# Altium integrated library TI Amplifiers and Linear PGA-VGA.IntLib: 149 symbols (part 2 of 8)
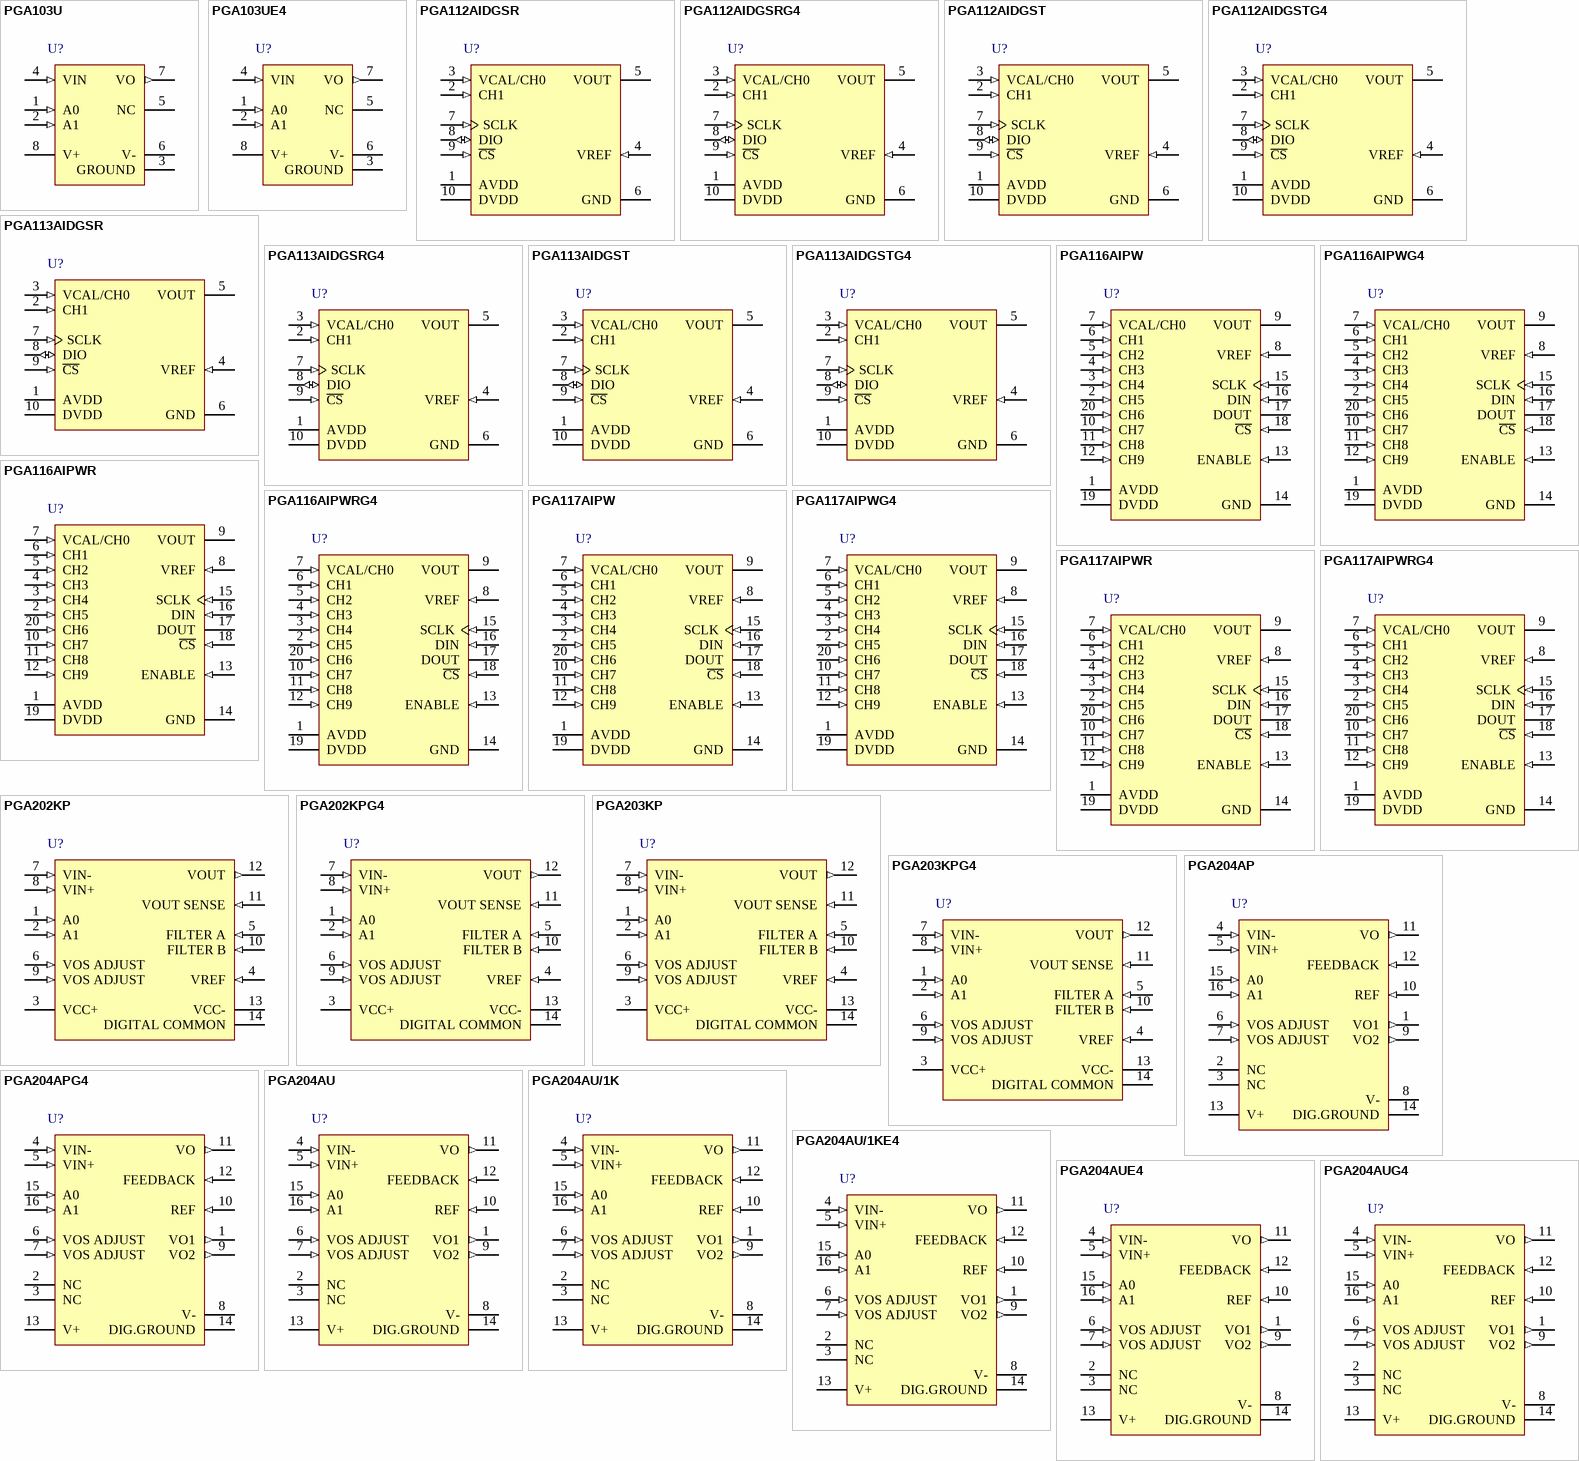
[diagram p8: symbols PGA103U to PGA204AUG4]

## PGA117AIPWR
designator U?
Zero-Drift, Programmable Gain Amplifier with MUX, -40 to 125 degC, 20-pin SOP (PW20), Green (RoHS & no Sb/Br); Manufacturer: Texas Instruments; PartNumber: PGA117AIPWR; Gain Error (+/-)(Max)(%): 0.1; Gain(V/V): 1, 2, 5, 10, 20, 50, 100, 200; Input Bias Current (+/-)(Max)(nA): 5; Input Offset (+/-)(Max)(uV): 100; Input Offset Drift (+/-)(Max)(uV/Degrees Celsius): 1.2; Non-Linearity (+/-)(Max)(%): 0.0015; Number of Channels: 10; Quiescent Current (+/-)(Typ)(mA): 1.1; Settling Time to 0.01%(Typ)(us): 2.55; Slew Rate(Typ)(V/us): 3; Vs(Max)(V): 5.5; Vs(Min)(V): 2.2; DatasheetVersion: SBOS424B; PackageVersion: 4040064-5/G, 02/2011; PackageReference: PW20; PackageDescription: 20-Pin Plastic Small Outline, Body 6.5 x 4.4 mm, Pitch 0.65 mm; Supplier 1: Digi-Key; Supplier Part Number 1: 296-23773-2-ND; Supplier 2: Digi-Key; Supplier Part Number 2: 296-23773-1-ND; Supplier 3: Digi-Key; Supplier Part Number 3: 296-23773-6-ND; Supplier 4: Newark; Supplier Part Number 4: 09P8516; Supplier 5: Mouser; Supplier Part Number 5: 595-PGA117AIPWR; Eco-Plan: Green (RoHS & no Sb/Br); SubFamily: Programmable Gain Amplifier; Mounting Technology: Surface Mount; Code_JEDEC: MO-153; ComponentLink1Description: Manufacturer URL; ComponentLink1URL: http://www.ti.com/; ComponentLink2Description: Datasheet; ComponentLink2URL: http://www.ti.com/general/docs/lit/getliterature.tsp?genericPartNumber=PGA117&fileType=pdf; ComponentLink3Description: Package Specification; ComponentLink3URL: http://www.ti.com.cn/cn/lit/ml/mpds362/mpds362.pdf
footprint TI-PW20_N (SOP, 20-Leads, Body 6.6x4.5mm, Pitch 0.65mm, IPC Medium Density)
footprint TI-PW20_L (SOP, 20-Leads, Body 6.6x4.5mm, Pitch 0.65mm, IPC High Density)
footprint TI-PW20_M (SOP, 20-Leads, Body 6.6x4.5mm, Pitch 0.65mm, IPC Low Density)
pins: 1 AVDD (power) "Analog supply voltage (+2.2V to +5.5V)", 2 CH5 (in) "Input MUX channel 5", 3 CH4 (in) "Input MUX channel 4", 4 CH3 (in) "Input MUX channel 3", 5 CH2 (in) "Input MUX channel 2", 6 CH1 (in) "Input MUX channel 1", 7 VCAL/CH0 (in) "Input MUX channel 0 and VCAL input. For system calibration purposes, connect this pin to a low-impedance external reference voltage to use internal calibration channels. The four internal calibration channels are connected (See Datasheet)", 8 VREF (in) "Reference input pin. Connect external reference for VOUT offset shift or to midsupply for midsupply referenced systems. VREF must be connected to a low-impedance reference capable of sourcing and sinking at least 2mA or to (See Datasheet)", 9 VOUT (hiz) "Analog voltage output. When AVDD < DVDD, VOUT is clamped to AVDD + 300mV.", 10 CH7 (in) "Input MUX channel 7", 11 CH8 (in) "Input MUX channel 8", 12 CH9 (in) "Input MUX channel 9", 13 ENABLE (in) "Hardware enable pin. Logic low puts the part into Shutdown mode (IQ < 1uA).", 14 GND (power) "Ground pin", 15 SCLK (in) "Clock input for SPI serial interface", 16 DIN (in) "Data input for SPI serial interface. DIN contains a weak, 10uA internal pull-down current source to allow for ease of daisy-chain configurations.", 17 DOUT (hiz) "Data output for SPI serial interface. DOUT goes to high-Z state when C\S\ goes high for standard SPI interface.", 18 ~{CS} (in) "Chip select line for SPI serial interface", 19 DVDD (power) "Digital and op amp output stage supply voltage (+2.2V to +5.5V). Useful in multi-supply systems to prevent overvoltage/lockup condition on an ADC input (for example, a microcontroller with an ADC running on +3V and the PGA (See Datasheet)", 20 CH6 (in) "Input MUX channel 6"

## PGA117AIPWRG4
designator U?
Zero-Drift, Programmable Gain Amplifier with MUX, -40 to 125 degC, 20-pin SOP (PW20), Green (RoHS & no Sb/Br); Manufacturer: Texas Instruments; PartNumber: PGA117AIPWRG4; Gain Error (+/-)(Max)(%): 0.1; Gain(V/V): 1, 2, 5, 10, 20, 50, 100, 200; Input Bias Current (+/-)(Max)(nA): 5; Input Offset (+/-)(Max)(uV): 100; Input Offset Drift (+/-)(Max)(uV/Degrees Celsius): 1.2; Non-Linearity (+/-)(Max)(%): 0.0015; Number of Channels: 10; Quiescent Current (+/-)(Typ)(mA): 1.1; Settling Time to 0.01%(Typ)(us): 2.55; Slew Rate(Typ)(V/us): 3; Vs(Max)(V): 5.5; Vs(Min)(V): 2.2; DatasheetVersion: SBOS424B; PackageVersion: 4040064-5/G, 02/2011; PackageReference: PW20; PackageDescription: 20-Pin Plastic Small Outline, Body 6.5 x 4.4 mm, Pitch 0.65 mm; Supplier 1: Digi-Key; Supplier Part Number 1: PGA117AIPWRG4-ND; Supplier 2: Mouser; Supplier Part Number 2: 595-PGA117AIPWRG4; Eco-Plan: Green (RoHS & no Sb/Br); SubFamily: Programmable Gain Amplifier; Mounting Technology: Surface Mount; Code_JEDEC: MO-153; ComponentLink1Description: Manufacturer URL; ComponentLink1URL: http://www.ti.com/; ComponentLink2Description: Datasheet; ComponentLink2URL: http://www.ti.com/general/docs/lit/getliterature.tsp?genericPartNumber=PGA117&fileType=pdf; ComponentLink3Description: Package Specification; ComponentLink3URL: http://www.ti.com.cn/cn/lit/ml/mpds362/mpds362.pdf
footprint TI-PW20_N (SOP, 20-Leads, Body 6.6x4.5mm, Pitch 0.65mm, IPC Medium Density)
footprint TI-PW20_L (SOP, 20-Leads, Body 6.6x4.5mm, Pitch 0.65mm, IPC High Density)
footprint TI-PW20_M (SOP, 20-Leads, Body 6.6x4.5mm, Pitch 0.65mm, IPC Low Density)
pins: 1 AVDD (power) "Analog supply voltage (+2.2V to +5.5V)", 2 CH5 (in) "Input MUX channel 5", 3 CH4 (in) "Input MUX channel 4", 4 CH3 (in) "Input MUX channel 3", 5 CH2 (in) "Input MUX channel 2", 6 CH1 (in) "Input MUX channel 1", 7 VCAL/CH0 (in) "Input MUX channel 0 and VCAL input. For system calibration purposes, connect this pin to a low-impedance external reference voltage to use internal calibration channels. The four internal calibration channels are connected (See Datasheet)", 8 VREF (in) "Reference input pin. Connect external reference for VOUT offset shift or to midsupply for midsupply referenced systems. VREF must be connected to a low-impedance reference capable of sourcing and sinking at least 2mA or to (See Datasheet)", 9 VOUT (hiz) "Analog voltage output. When AVDD < DVDD, VOUT is clamped to AVDD + 300mV.", 10 CH7 (in) "Input MUX channel 7", 11 CH8 (in) "Input MUX channel 8", 12 CH9 (in) "Input MUX channel 9", 13 ENABLE (in) "Hardware enable pin. Logic low puts the part into Shutdown mode (IQ < 1uA).", 14 GND (power) "Ground pin", 15 SCLK (in) "Clock input for SPI serial interface", 16 DIN (in) "Data input for SPI serial interface. DIN contains a weak, 10uA internal pull-down current source to allow for ease of daisy-chain configurations.", 17 DOUT (hiz) "Data output for SPI serial interface. DOUT goes to high-Z state when C\S\ goes high for standard SPI interface.", 18 ~{CS} (in) "Chip select line for SPI serial interface", 19 DVDD (power) "Digital and op amp output stage supply voltage (+2.2V to +5.5V). Useful in multi-supply systems to prevent overvoltage/lockup condition on an ADC input (for example, a microcontroller with an ADC running on +3V and the PGA (See Datasheet)", 20 CH6 (in) "Input MUX channel 6"

## PGA202KP
designator U?
Digitally Controlled Programmable-Gain Instrumentation Amplifier, -25 to 85 degC, 14-pin DIP (N14), Green (RoHS & no Sb/Br); Manufacturer: Texas Instruments; PartNumber: PGA202KP; Common Mode Input High(Min)(V): 10; Common Mode Input Low(Min)(V): -10; Gain Error (+/-)(Max)(%): 0.25; Gain(V/V): 1, 10, 100, 1000; Input Bias Current (+/-)(Max)(nA): 0.05; Non-Linearity (+/-)(Max)(%): 0.015; Number of Channels: 1; Quiescent Current (+/-)(Typ)(mA): 6.5; Settling Time to 0.01%(Typ)(us): 2; Slew Rate(Typ)(V/us): 20; SubFamily: Programmable Gain Amplifier; Vs(Max)(V): 36; Vs(Min)(V): 12; DatasheetVersion: SBOS002; PackageVersion: 4040049/E, 12/2002; PackageReference: N14; PackageDescription: 14-Pin Plastic In-Line, Body 19.305 x 6.35 mm, Pitch 2.54 mm; Supplier 1: Digi-Key; Supplier Part Number 1: PGA202KP-ND; Supplier 2: Farnell; Supplier Part Number 2: 1648647; Supplier 3: Newark; Supplier Part Number 3: 80K6038; Supplier 4: Mouser; Supplier Part Number 4: 595-PGA202KP; Eco-Plan: Green (RoHS & no Sb/Br); Mounting Technology: Through Hole; Code_JEDEC: MS-001; ComponentLink1Description: Manufacturer URL; ComponentLink1URL: http://www.ti.com/; ComponentLink2Description: Datasheet; ComponentLink2URL: http://www.ti.com/general/docs/lit/getliterature.tsp?genericPartNumber=PGA202&fileType=pdf; ComponentLink3Description: Package Specification; ComponentLink3URL: http://www.ti.com/lit/ml/mpdi002c/mpdi002c.pdf
footprint TI-N14 (DIP, 14-Leads, Body 19.7x6.6mm, Pitch 2.54mm)
pins: 1 A0 (in), 2 A1 (in), 3 VCC+ (power), 4 VREF (in), 5 FILTER A (in), 6 VOS ADJUST (in), 7 VIN- (in), 8 VIN+ (in), 9 VOS ADJUST (in), 10 FILTER B (in), 11 VOUT SENSE (in), 12 VOUT (out), 13 VCC- (power), 14 DIGITAL COMMON (power)

## PGA202KPG4
designator U?
Digitally Controlled Programmable-Gain Instrumentation Amplifier, -25 to 85 degC, 14-pin DIP (N14), Green (RoHS & no Sb/Br); Manufacturer: Texas Instruments; PartNumber: PGA202KPG4; Common Mode Input High(Min)(V): 10; Common Mode Input Low(Min)(V): -10; Gain Error (+/-)(Max)(%): 0.25; Gain(V/V): 1, 10, 100, 1000; Input Bias Current (+/-)(Max)(nA): 0.05; Non-Linearity (+/-)(Max)(%): 0.015; Number of Channels: 1; Quiescent Current (+/-)(Typ)(mA): 6.5; Settling Time to 0.01%(Typ)(us): 2; Slew Rate(Typ)(V/us): 20; SubFamily: Programmable Gain Amplifier; Vs(Max)(V): 36; Vs(Min)(V): 12; DatasheetVersion: SBOS002; PackageVersion: 4040049/E, 12/2002; PackageReference: N14; PackageDescription: 14-Pin Plastic In-Line, Body 19.305 x 6.35 mm, Pitch 2.54 mm; Supplier 1: Digi-Key; Supplier Part Number 1: PGA202KPG4-ND; Supplier 2: Mouser; Supplier Part Number 2: 595-PGA202KPG4; Eco-Plan: Green (RoHS & no Sb/Br); Mounting Technology: Through Hole; Code_JEDEC: MS-001; ComponentLink1Description: Manufacturer URL; ComponentLink1URL: http://www.ti.com/; ComponentLink2Description: Datasheet; ComponentLink2URL: http://www.ti.com/general/docs/lit/getliterature.tsp?genericPartNumber=PGA202&fileType=pdf; ComponentLink3Description: Package Specification; ComponentLink3URL: http://www.ti.com/lit/ml/mpdi002c/mpdi002c.pdf
footprint TI-N14 (DIP, 14-Leads, Body 19.7x6.6mm, Pitch 2.54mm)
pins: 1 A0 (in), 2 A1 (in), 3 VCC+ (power), 4 VREF (in), 5 FILTER A (in), 6 VOS ADJUST (in), 7 VIN- (in), 8 VIN+ (in), 9 VOS ADJUST (in), 10 FILTER B (in), 11 VOUT SENSE (in), 12 VOUT (out), 13 VCC- (power), 14 DIGITAL COMMON (power)

## PGA203KP
designator U?
Digitally Controlled Programmable-Gain Instrumentation Amplifier, -25 to 85 degC, 14-pin DIP (N14), Green (RoHS & no Sb/Br); Manufacturer: Texas Instruments; PartNumber: PGA203KP; Common Mode Input High(Min)(V): 10; Common Mode Input Low(Min)(V): -10; Gain Error (+/-)(Max)(%): 0.25; Gain(V/V): 1, 2, 4, 8; Input Bias Current (+/-)(Max)(nA): 0.05; Non-Linearity (+/-)(Max)(%): 0.015; Number of Channels: 1; Quiescent Current (+/-)(Typ)(mA): 6.5; Settling Time to 0.01%(Typ)(us): 2; Slew Rate(Typ)(V/us): 20; SubFamily: Programmable Gain Amplifier; Vs(Max)(V): 36; Vs(Min)(V): 12; DatasheetVersion: SBOS002; PackageVersion: 4040049/E, 12/2002; PackageReference: N14; PackageDescription: 14-Pin Plastic In-Line, Body 19.305 x 6.35 mm, Pitch 2.54 mm; Supplier 1: Digi-Key; Supplier Part Number 1: PGA203KP-ND; Supplier 2: Farnell; Supplier Part Number 2: 1544015; Supplier 3: Newark; Supplier Part Number 3: 80K7312; Supplier 4: Mouser; Supplier Part Number 4: 595-PGA203KP; Eco-Plan: Green (RoHS & no Sb/Br); Mounting Technology: Through Hole; Code_JEDEC: MS-001; ComponentLink1Description: Manufacturer URL; ComponentLink1URL: http://www.ti.com/; ComponentLink2Description: Datasheet; ComponentLink2URL: http://www.ti.com/general/docs/lit/getliterature.tsp?genericPartNumber=PGA203&fileType=pdf; ComponentLink3Description: Package Specification; ComponentLink3URL: http://www.ti.com/lit/ml/mpdi002c/mpdi002c.pdf
footprint TI-N14 (DIP, 14-Leads, Body 19.7x6.6mm, Pitch 2.54mm)
pins: 1 A0 (in), 2 A1 (in), 3 VCC+ (power), 4 VREF (in), 5 FILTER A (in), 6 VOS ADJUST (in), 7 VIN- (in), 8 VIN+ (in), 9 VOS ADJUST (in), 10 FILTER B (in), 11 VOUT SENSE (in), 12 VOUT (out), 13 VCC- (power), 14 DIGITAL COMMON (power)

## PGA203KPG4
designator U?
Digitally Controlled Programmable-Gain Instrumentation Amplifier, -25 to 85 degC, 14-pin DIP (N14), Green (RoHS & no Sb/Br); Manufacturer: Texas Instruments; PartNumber: PGA203KPG4; Common Mode Input High(Min)(V): 10; Common Mode Input Low(Min)(V): -10; Gain Error (+/-)(Max)(%): 0.25; Gain(V/V): 1, 2, 4, 8; Input Bias Current (+/-)(Max)(nA): 0.05; Non-Linearity (+/-)(Max)(%): 0.015; Number of Channels: 1; Quiescent Current (+/-)(Typ)(mA): 6.5; Settling Time to 0.01%(Typ)(us): 2; Slew Rate(Typ)(V/us): 20; SubFamily: Programmable Gain Amplifier; Vs(Max)(V): 36; Vs(Min)(V): 12; DatasheetVersion: SBOS002; PackageVersion: 4040049/E, 12/2002; PackageReference: N14; PackageDescription: 14-Pin Plastic In-Line, Body 19.305 x 6.35 mm, Pitch 2.54 mm; Supplier 1: Digi-Key; Supplier Part Number 1: PGA203KPG4-ND; Supplier 2: Mouser; Supplier Part Number 2: 595-PGA203KPG4; Eco-Plan: Green (RoHS & no Sb/Br); Mounting Technology: Through Hole; Code_JEDEC: MS-001; ComponentLink1Description: Manufacturer URL; ComponentLink1URL: http://www.ti.com/; ComponentLink2Description: Datasheet; ComponentLink2URL: http://www.ti.com/general/docs/lit/getliterature.tsp?genericPartNumber=PGA203&fileType=pdf; ComponentLink3Description: Package Specification; ComponentLink3URL: http://www.ti.com/lit/ml/mpdi002c/mpdi002c.pdf
footprint TI-N14 (DIP, 14-Leads, Body 19.7x6.6mm, Pitch 2.54mm)
pins: 1 A0 (in), 2 A1 (in), 3 VCC+ (power), 4 VREF (in), 5 FILTER A (in), 6 VOS ADJUST (in), 7 VIN- (in), 8 VIN+ (in), 9 VOS ADJUST (in), 10 FILTER B (in), 11 VOUT SENSE (in), 12 VOUT (out), 13 VCC- (power), 14 DIGITAL COMMON (power)

## PGA204AP
designator U?
Programmable Gain Instrumentation Amplifier, -40 to 85 degC, 16-pin DIP (N16), Green (RoHS & no Sb/Br); Manufacturer: Texas Instruments; PartNumber: PGA204AP; Common Mode Input High(Min)(V): 10.5; Common Mode Input Low(Min)(V): -10.5; Gain Error (+/-)(Max)(%): 0.05; Gain(V/V): 1, 10, 100, 1000; Input Bias Current (+/-)(Max)(nA): 5; Input Offset (+/-)(Max)(uV): 125; Input Offset Drift (+/-)(Max)(uV/Degrees Celsius): 1; Noise at 1kHz(Typ)(nV/rt(Hz)): 13; Non-Linearity (+/-)(Max)(%): 0.002; Quiescent Current (+/-)(Typ)(mA): 5.2; Settling Time to 0.01%(Typ)(us): 140; Slew Rate(Typ)(V/us): 0.7; SubFamily: Programmable Gain Amplifier; Vs(Max)(V): 36; Vs(Min)(V): 9; DatasheetVersion: SBOS022; PackageVersion: 4040049/E, 12/2002; PackageReference: N16; PackageDescription: 16-Pin Plastic In-Line, Body 19.305 x 6.35 mm, Pitch 2.54 mm; Supplier 1: Digi-Key; Supplier Part Number 1: PGA204AP-ND; Supplier 2: Farnell; Supplier Part Number 2: 1470399; Supplier 3: Newark; Supplier Part Number 3: 75C5418; Supplier 4: Mouser; Supplier Part Number 4: 595-PGA204AP; Eco-Plan: Green (RoHS & no Sb/Br); Number of Channels: 1; Mounting Technology: Through Hole; Code_JEDEC: MS-001; ComponentLink1Description: Manufacturer URL; ComponentLink1URL: http://www.ti.com/; ComponentLink2Description: Datasheet; ComponentLink2URL: http://www.ti.com/general/docs/lit/getliterature.tsp?genericPartNumber=PGA204&fileType=pdf; ComponentLink3Description: Package Specification; ComponentLink3URL: http://www.ti.com/litv/pdf/mpdi002c
footprint TI-N16 (DIP, 16-Leads, Body 19.7x6.6mm, Pitch 2.54mm)
pins: 1 VO1 (out), 2 NC, 3 NC, 4 VIN- (in), 5 VIN+ (in), 6 VOS ADJUST (in), 7 VOS ADJUST (in), 8 V- (power), 9 VO2 (out), 10 REF (in), 11 VO (out), 12 FEEDBACK (in), 13 V+ (power), 14 DIG.GROUND (power), 15 A0 (in), 16 A1 (in)

## PGA204APG4
designator U?
Programmable Gain Instrumentation Amplifier, -40 to 85 degC, 16-pin DIP (N16), Green (RoHS & no Sb/Br); Manufacturer: Texas Instruments; PartNumber: PGA204APG4; Common Mode Input High(Min)(V): 10.5; Common Mode Input Low(Min)(V): -10.5; Gain Error (+/-)(Max)(%): 0.05; Gain(V/V): 1, 10, 100, 1000; Input Bias Current (+/-)(Max)(nA): 5; Input Offset (+/-)(Max)(uV): 125; Input Offset Drift (+/-)(Max)(uV/Degrees Celsius): 1; Noise at 1kHz(Typ)(nV/rt(Hz)): 13; Non-Linearity (+/-)(Max)(%): 0.002; Quiescent Current (+/-)(Typ)(mA): 5.2; Settling Time to 0.01%(Typ)(us): 140; Slew Rate(Typ)(V/us): 0.7; SubFamily: Programmable Gain Amplifier; Vs(Max)(V): 36; Vs(Min)(V): 9; DatasheetVersion: SBOS022; PackageVersion: 4040049/E, 12/2002; PackageReference: N16; PackageDescription: 16-Pin Plastic In-Line, Body 19.305 x 6.35 mm, Pitch 2.54 mm; Supplier 1: Digi-Key; Supplier Part Number 1: PGA204APG4-ND; Supplier 2: Newark; Supplier Part Number 2: 28M6722; Supplier 3: Mouser; Supplier Part Number 3: 595-PGA204APG4; Eco-Plan: Green (RoHS & no Sb/Br); Number of Channels: 1; Mounting Technology: Through Hole; Code_JEDEC: MS-001; ComponentLink1Description: Manufacturer URL; ComponentLink1URL: http://www.ti.com/; ComponentLink2Description: Datasheet; ComponentLink2URL: http://www.ti.com/general/docs/lit/getliterature.tsp?genericPartNumber=PGA204&fileType=pdf; ComponentLink3Description: Package Specification; ComponentLink3URL: http://www.ti.com/litv/pdf/mpdi002c
footprint TI-N16 (DIP, 16-Leads, Body 19.7x6.6mm, Pitch 2.54mm)
pins: 1 VO1 (out), 2 NC, 3 NC, 4 VIN- (in), 5 VIN+ (in), 6 VOS ADJUST (in), 7 VOS ADJUST (in), 8 V- (power), 9 VO2 (out), 10 REF (in), 11 VO (out), 12 FEEDBACK (in), 13 V+ (power), 14 DIG.GROUND (power), 15 A0 (in), 16 A1 (in)

## PGA204AU
designator U?
Programmable Gain Instrumentation Amplifier, -40 to 85 degC, 16-pin SOIC (DW16), Green (RoHS & no Sb/Br); Manufacturer: Texas Instruments; PartNumber: PGA204AU; Common Mode Input High(Min)(V): 10.5; Common Mode Input Low(Min)(V): -10.5; Gain Error (+/-)(Max)(%): 0.05; Gain(V/V): 1, 10, 100, 1000; Input Bias Current (+/-)(Max)(nA): 5; Input Offset (+/-)(Max)(uV): 125; Input Offset Drift (+/-)(Max)(uV/Degrees Celsius): 1; Noise at 1kHz(Typ)(nV/rt(Hz)): 13; Non-Linearity (+/-)(Max)(%): 0.002; Quiescent Current (+/-)(Typ)(mA): 5.2; Settling Time to 0.01%(Typ)(us): 140; Slew Rate(Typ)(V/us): 0.7; SubFamily: Programmable Gain Amplifier; Vs(Max)(V): 36; Vs(Min)(V): 9; DatasheetVersion: SBOS022; PackageVersion: 4040000-2/G, 01/2011; PackageReference: DW16; PackageDescription: 16-Pin Plastic Small Outline, Body 10.30 x 7.50 mm, Pitch 1.27 mm; Supplier 1: Digi-Key; Supplier Part Number 1: PGA204AU-ND; Supplier 2: Newark; Supplier Part Number 2: 35C1957; Supplier 3: Mouser; Supplier Part Number 3: 595-PGA204AU; Eco-Plan: Green (RoHS & no Sb/Br); Number of Channels: 1; Mounting Technology: Surface Mount; Code_JEDEC: MS-013; ComponentLink1Description: Manufacturer URL; ComponentLink1URL: http://www.ti.com/; ComponentLink2Description: Datasheet; ComponentLink2URL: http://www.ti.com/general/docs/lit/getliterature.tsp?genericPartNumber=PGA204&fileType=pdf; ComponentLink3Description: Package Specification; ComponentLink3URL: http://www.ti.com/litv/pdf/msoi003g
footprint TI-DW16_N (SOIC, 16-Leads, Body 10.5x7.6mm, Pitch 1.27mm, IPC Medium Density)
footprint TI-DW16_L (SOIC, 16-Leads, Body 10.5x7.6mm, Pitch 1.27mm, IPC High Density)
footprint TI-DW16_M (SOIC, 16-Leads, Body 10.5x7.6mm, Pitch 1.27mm, IPC Low Density)
pins: 1 VO1 (out), 2 NC, 3 NC, 4 VIN- (in), 5 VIN+ (in), 6 VOS ADJUST (in), 7 VOS ADJUST (in), 8 V- (power), 9 VO2 (out), 10 REF (in), 11 VO (out), 12 FEEDBACK (in), 13 V+ (power), 14 DIG.GROUND (power), 15 A0 (in), 16 A1 (in)

## PGA204AU/1K
designator U?
Programmable Gain Instrumentation Amplifier, -40 to 85 degC, 16-pin SOIC (DW16), Green (RoHS & no Sb/Br); Manufacturer: Texas Instruments; PartNumber: PGA204AU/1K; Common Mode Input High(Min)(V): 10.5; Common Mode Input Low(Min)(V): -10.5; Gain Error (+/-)(Max)(%): 0.05; Gain(V/V): 1, 10, 100, 1000; Input Bias Current (+/-)(Max)(nA): 5; Input Offset (+/-)(Max)(uV): 125; Input Offset Drift (+/-)(Max)(uV/Degrees Celsius): 1; Noise at 1kHz(Typ)(nV/rt(Hz)): 13; Non-Linearity (+/-)(Max)(%): 0.002; Quiescent Current (+/-)(Typ)(mA): 5.2; Settling Time to 0.01%(Typ)(us): 140; Slew Rate(Typ)(V/us): 0.7; SubFamily: Programmable Gain Amplifier; Vs(Max)(V): 36; Vs(Min)(V): 9; DatasheetVersion: SBOS022; PackageVersion: 4040000-2/G, 01/2011; PackageReference: DW16; PackageDescription: 16-Pin Plastic Small Outline, Body 10.30 x 7.50 mm, Pitch 1.27 mm; Supplier 1: Digi-Key; Supplier Part Number 1: PGA204AU/1K-ND; Supplier 2: Newark; Supplier Part Number 2: 75C5419; Supplier 3: Mouser; Supplier Part Number 3: 595-PGA204AU/1K; Eco-Plan: Green (RoHS & no Sb/Br); Number of Channels: 1; Mounting Technology: Surface Mount; Code_JEDEC: MS-013; ComponentLink1Description: Manufacturer URL; ComponentLink1URL: http://www.ti.com/; ComponentLink2Description: Datasheet; ComponentLink2URL: http://www.ti.com/general/docs/lit/getliterature.tsp?genericPartNumber=PGA204&fileType=pdf; ComponentLink3Description: Package Specification; ComponentLink3URL: http://www.ti.com/litv/pdf/msoi003g
footprint TI-DW16_N (SOIC, 16-Leads, Body 10.5x7.6mm, Pitch 1.27mm, IPC Medium Density)
footprint TI-DW16_L (SOIC, 16-Leads, Body 10.5x7.6mm, Pitch 1.27mm, IPC High Density)
footprint TI-DW16_M (SOIC, 16-Leads, Body 10.5x7.6mm, Pitch 1.27mm, IPC Low Density)
pins: 1 VO1 (out), 2 NC, 3 NC, 4 VIN- (in), 5 VIN+ (in), 6 VOS ADJUST (in), 7 VOS ADJUST (in), 8 V- (power), 9 VO2 (out), 10 REF (in), 11 VO (out), 12 FEEDBACK (in), 13 V+ (power), 14 DIG.GROUND (power), 15 A0 (in), 16 A1 (in)

## PGA204AU/1KE4
designator U?
Programmable Gain Instrumentation Amplifier, -40 to 85 degC, 16-pin SOIC (DW16), Green (RoHS & no Sb/Br); Manufacturer: Texas Instruments; PartNumber: PGA204AU/1KE4; Common Mode Input High(Min)(V): 10.5; Common Mode Input Low(Min)(V): -10.5; Gain Error (+/-)(Max)(%): 0.05; Gain(V/V): 1, 10, 100, 1000; Input Bias Current (+/-)(Max)(nA): 5; Input Offset (+/-)(Max)(uV): 125; Input Offset Drift (+/-)(Max)(uV/Degrees Celsius): 1; Noise at 1kHz(Typ)(nV/rt(Hz)): 13; Non-Linearity (+/-)(Max)(%): 0.002; Quiescent Current (+/-)(Typ)(mA): 5.2; Settling Time to 0.01%(Typ)(us): 140; Slew Rate(Typ)(V/us): 0.7; SubFamily: Programmable Gain Amplifier; Vs(Max)(V): 36; Vs(Min)(V): 9; DatasheetVersion: SBOS022; PackageVersion: 4040000-2/G, 01/2011; PackageReference: DW16; PackageDescription: 16-Pin Plastic Small Outline, Body 10.30 x 7.50 mm, Pitch 1.27 mm; Supplier 1: Digi-Key; Supplier Part Number 1: PGA204AU/1KE4-ND; Supplier 2: Newark; Supplier Part Number 2: 61K1392; Supplier 3: Mouser; Supplier Part Number 3: 595-PGA204AU/1KE4; Eco-Plan: Green (RoHS & no Sb/Br); Number of Channels: 1; Mounting Technology: Surface Mount; Code_JEDEC: MS-013; ComponentLink1Description: Manufacturer URL; ComponentLink1URL: http://www.ti.com/; ComponentLink2Description: Datasheet; ComponentLink2URL: http://www.ti.com/general/docs/lit/getliterature.tsp?genericPartNumber=PGA204&fileType=pdf; ComponentLink3Description: Package Specification; ComponentLink3URL: http://www.ti.com/litv/pdf/msoi003g
footprint TI-DW16_N (SOIC, 16-Leads, Body 10.5x7.6mm, Pitch 1.27mm, IPC Medium Density)
footprint TI-DW16_L (SOIC, 16-Leads, Body 10.5x7.6mm, Pitch 1.27mm, IPC High Density)
footprint TI-DW16_M (SOIC, 16-Leads, Body 10.5x7.6mm, Pitch 1.27mm, IPC Low Density)
pins: 1 VO1 (out), 2 NC, 3 NC, 4 VIN- (in), 5 VIN+ (in), 6 VOS ADJUST (in), 7 VOS ADJUST (in), 8 V- (power), 9 VO2 (out), 10 REF (in), 11 VO (out), 12 FEEDBACK (in), 13 V+ (power), 14 DIG.GROUND (power), 15 A0 (in), 16 A1 (in)

## PGA204AUE4
designator U?
Programmable Gain Instrumentation Amplifier, -40 to 85 degC, 16-pin SOIC (DW16), Green (RoHS & no Sb/Br); Manufacturer: Texas Instruments; PartNumber: PGA204AUE4; Common Mode Input High(Min)(V): 10.5; Common Mode Input Low(Min)(V): -10.5; Gain Error (+/-)(Max)(%): 0.05; Gain(V/V): 1, 10, 100, 1000; Input Bias Current (+/-)(Max)(nA): 5; Input Offset (+/-)(Max)(uV): 125; Input Offset Drift (+/-)(Max)(uV/Degrees Celsius): 1; Noise at 1kHz(Typ)(nV/rt(Hz)): 13; Non-Linearity (+/-)(Max)(%): 0.002; Quiescent Current (+/-)(Typ)(mA): 5.2; Settling Time to 0.01%(Typ)(us): 140; Slew Rate(Typ)(V/us): 0.7; SubFamily: Programmable Gain Amplifier; Vs(Max)(V): 36; Vs(Min)(V): 9; DatasheetVersion: SBOS022; PackageVersion: 4040000-2/G, 01/2011; PackageReference: DW16; PackageDescription: 16-Pin Plastic Small Outline, Body 10.30 x 7.50 mm, Pitch 1.27 mm; Supplier 1: Digi-Key; Supplier Part Number 1: PGA204AUE4-ND; Supplier 2: Farnell; Supplier Part Number 2: 1207093; Supplier 3: Newark; Supplier Part Number 3: 97K7119; Supplier 4: Mouser; Supplier Part Number 4: 595-PGA204AUE4; Eco-Plan: Green (RoHS & no Sb/Br); Number of Channels: 1; Mounting Technology: Surface Mount; Code_JEDEC: MS-013; ComponentLink1Description: Manufacturer URL; ComponentLink1URL: http://www.ti.com/; ComponentLink2Description: Datasheet; ComponentLink2URL: http://www.ti.com/general/docs/lit/getliterature.tsp?genericPartNumber=PGA204&fileType=pdf; ComponentLink3Description: Package Specification; ComponentLink3URL: http://www.ti.com/litv/pdf/msoi003g
footprint TI-DW16_N (SOIC, 16-Leads, Body 10.5x7.6mm, Pitch 1.27mm, IPC Medium Density)
footprint TI-DW16_L (SOIC, 16-Leads, Body 10.5x7.6mm, Pitch 1.27mm, IPC High Density)
footprint TI-DW16_M (SOIC, 16-Leads, Body 10.5x7.6mm, Pitch 1.27mm, IPC Low Density)
pins: 1 VO1 (out), 2 NC, 3 NC, 4 VIN- (in), 5 VIN+ (in), 6 VOS ADJUST (in), 7 VOS ADJUST (in), 8 V- (power), 9 VO2 (out), 10 REF (in), 11 VO (out), 12 FEEDBACK (in), 13 V+ (power), 14 DIG.GROUND (power), 15 A0 (in), 16 A1 (in)

## PGA204AUG4
designator U?
Programmable Gain Instrumentation Amplifier, -40 to 85 degC, 16-pin SOIC (DW16), Green (RoHS & no Sb/Br); Manufacturer: Texas Instruments; PartNumber: PGA204AUG4; Common Mode Input High(Min)(V): 10.5; Common Mode Input Low(Min)(V): -10.5; Gain Error (+/-)(Max)(%): 0.05; Gain(V/V): 1, 10, 100, 1000; Input Bias Current (+/-)(Max)(nA): 5; Input Offset (+/-)(Max)(uV): 125; Input Offset Drift (+/-)(Max)(uV/Degrees Celsius): 1; Noise at 1kHz(Typ)(nV/rt(Hz)): 13; Non-Linearity (+/-)(Max)(%): 0.002; Quiescent Current (+/-)(Typ)(mA): 5.2; Settling Time to 0.01%(Typ)(us): 140; Slew Rate(Typ)(V/us): 0.7; SubFamily: Programmable Gain Amplifier; Vs(Max)(V): 36; Vs(Min)(V): 9; DatasheetVersion: SBOS022; PackageVersion: 4040000-2/G, 01/2011; PackageReference: DW16; PackageDescription: 16-Pin Plastic Small Outline, Body 10.30 x 7.50 mm, Pitch 1.27 mm; Supplier 1: Digi-Key; Supplier Part Number 1: PGA204AUG4-ND; Eco-Plan: Green (RoHS & no Sb/Br); Number of Channels: 1; Mounting Technology: Surface Mount; Code_JEDEC: MS-013; ComponentLink1Description: Manufacturer URL; ComponentLink1URL: http://www.ti.com/; ComponentLink2Description: Datasheet; ComponentLink2URL: http://www.ti.com/general/docs/lit/getliterature.tsp?genericPartNumber=PGA204&fileType=pdf; ComponentLink3Description: Package Specification; ComponentLink3URL: http://www.ti.com/litv/pdf/msoi003g
footprint TI-DW16_N (SOIC, 16-Leads, Body 10.5x7.6mm, Pitch 1.27mm, IPC Medium Density)
footprint TI-DW16_L (SOIC, 16-Leads, Body 10.5x7.6mm, Pitch 1.27mm, IPC High Density)
footprint TI-DW16_M (SOIC, 16-Leads, Body 10.5x7.6mm, Pitch 1.27mm, IPC Low Density)
pins: 1 VO1 (out), 2 NC, 3 NC, 4 VIN- (in), 5 VIN+ (in), 6 VOS ADJUST (in), 7 VOS ADJUST (in), 8 V- (power), 9 VO2 (out), 10 REF (in), 11 VO (out), 12 FEEDBACK (in), 13 V+ (power), 14 DIG.GROUND (power), 15 A0 (in), 16 A1 (in)

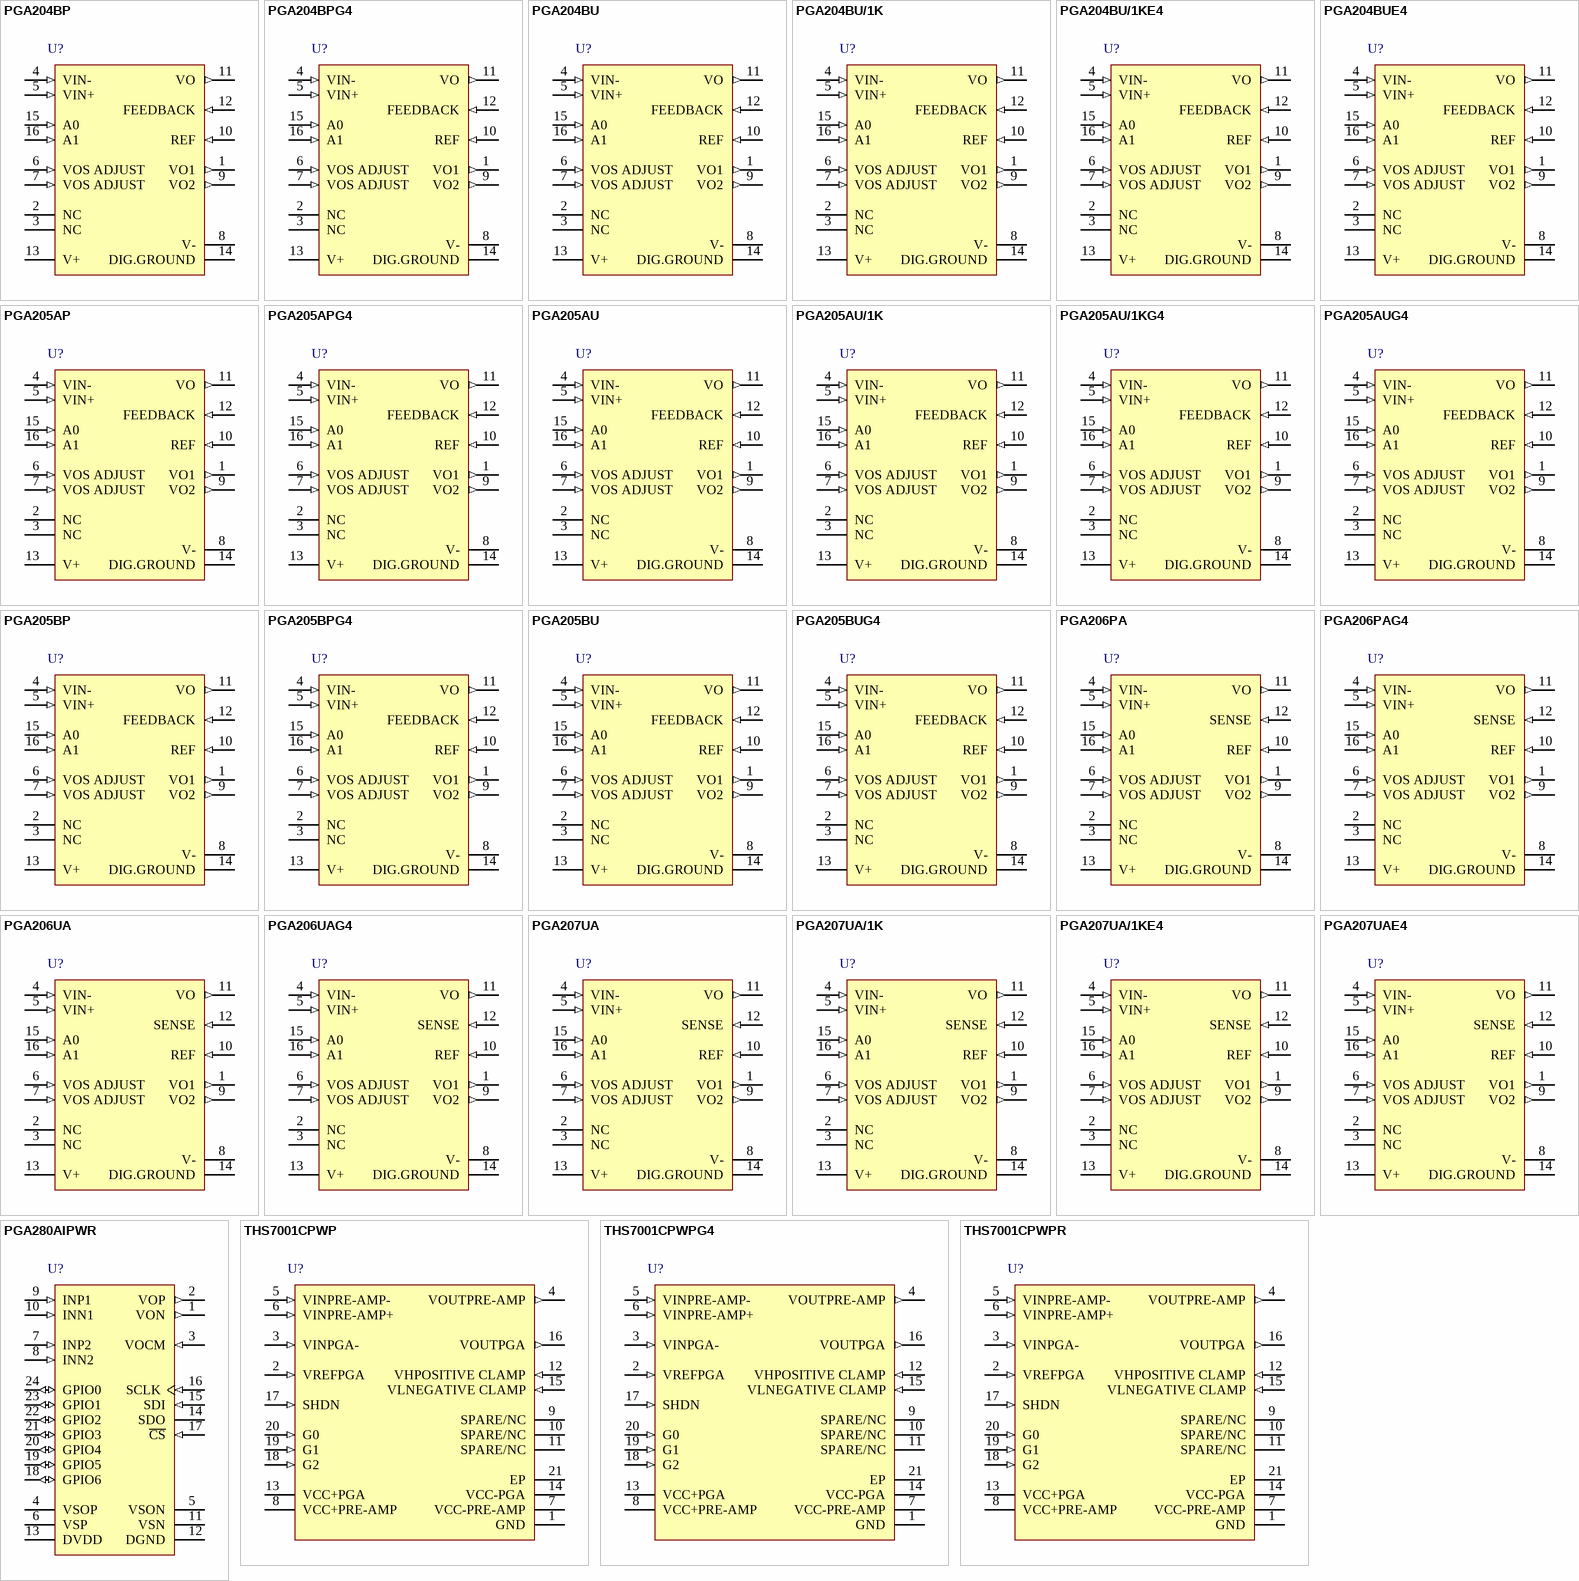
[diagram p1: symbols PGA204BP to THS7001CPWPR]

## PGA204BP
designator U?
Programmable Gain Instrumentation Amplifier, -40 to 85 degC, 16-pin DIP (N16), Green (RoHS & no Sb/Br); Manufacturer: Texas Instruments; PartNumber: PGA204BP; Common Mode Input High(Min)(V): 10.5; Common Mode Input Low(Min)(V): -10.5; Gain Error (+/-)(Max)(%): 0.024; Gain(V/V): 1, 10, 100, 1000; Input Bias Current (+/-)(Max)(nA): 2; Input Offset (+/-)(Max)(uV): 50; Input Offset Drift (+/-)(Max)(uV/Degrees Celsius): 0.25; Noise at 1kHz(Typ)(nV/rt(Hz)): 13; Non-Linearity (+/-)(Max)(%): 0.001; Number of Channels: 1; Quiescent Current (+/-)(Typ)(mA): 5.2; Settling Time to 0.01%(Typ)(us): 140; Slew Rate(Typ)(V/us): 0.7; SubFamily: Programmable Gain Amplifier; Vs(Max)(V): 36; Vs(Min)(V): 9; DatasheetVersion: SBOS022; PackageVersion: 4040049/E, 12/2002; PackageReference: N16; PackageDescription: 16-Pin Plastic In-Line, Body 19.305 x 6.35 mm, Pitch 2.54 mm; Supplier 1: Farnell; Supplier Part Number 1: 1212334; Supplier 2: Newark; Supplier Part Number 2: 75C5420; Supplier 3: Mouser; Supplier Part Number 3: 595-PGA204BP; Eco-Plan: Green (RoHS & no Sb/Br); Mounting Technology: Through Hole; Code_JEDEC: MS-001; ComponentLink1Description: Manufacturer URL; ComponentLink1URL: http://www.ti.com/; ComponentLink2Description: Datasheet; ComponentLink2URL: http://www.ti.com/general/docs/lit/getliterature.tsp?genericPartNumber=PGA204&fileType=pdf; ComponentLink3Description: Package Specification; ComponentLink3URL: http://www.ti.com/litv/pdf/mpdi002c
footprint TI-N16 (DIP, 16-Leads, Body 19.7x6.6mm, Pitch 2.54mm)
pins: 1 VO1 (out), 2 NC, 3 NC, 4 VIN- (in), 5 VIN+ (in), 6 VOS ADJUST (in), 7 VOS ADJUST (in), 8 V- (power), 9 VO2 (out), 10 REF (in), 11 VO (out), 12 FEEDBACK (in), 13 V+ (power), 14 DIG.GROUND (power), 15 A0 (in), 16 A1 (in)

## PGA204BPG4
designator U?
Programmable Gain Instrumentation Amplifier, -40 to 85 degC, 16-pin DIP (N16), Green (RoHS & no Sb/Br); Manufacturer: Texas Instruments; PartNumber: PGA204BPG4; Common Mode Input High(Min)(V): 10.5; Common Mode Input Low(Min)(V): -10.5; Gain Error (+/-)(Max)(%): 0.024; Gain(V/V): 1, 10, 100, 1000; Input Bias Current (+/-)(Max)(nA): 2; Input Offset (+/-)(Max)(uV): 50; Input Offset Drift (+/-)(Max)(uV/Degrees Celsius): 0.25; Noise at 1kHz(Typ)(nV/rt(Hz)): 13; Non-Linearity (+/-)(Max)(%): 0.001; Number of Channels: 1; Quiescent Current (+/-)(Typ)(mA): 5.2; Settling Time to 0.01%(Typ)(us): 140; Slew Rate(Typ)(V/us): 0.7; SubFamily: Programmable Gain Amplifier; Vs(Max)(V): 36; Vs(Min)(V): 9; DatasheetVersion: SBOS022; PackageVersion: 4040049/E, 12/2002; PackageReference: N16; PackageDescription: 16-Pin Plastic In-Line, Body 19.305 x 6.35 mm, Pitch 2.54 mm; Supplier 1: Digi-Key; Supplier Part Number 1: PGA204BPG4-ND; Supplier 2: Newark; Supplier Part Number 2: 28M6723; Supplier 3: Mouser; Supplier Part Number 3: 595-PGA204BPG4; Eco-Plan: Green (RoHS & no Sb/Br); Mounting Technology: Through Hole; Code_JEDEC: MS-001; ComponentLink1Description: Manufacturer URL; ComponentLink1URL: http://www.ti.com/; ComponentLink2Description: Datasheet; ComponentLink2URL: http://www.ti.com/general/docs/lit/getliterature.tsp?genericPartNumber=PGA204&fileType=pdf; ComponentLink3Description: Package Specification; ComponentLink3URL: http://www.ti.com/litv/pdf/mpdi002c
footprint TI-N16 (DIP, 16-Leads, Body 19.7x6.6mm, Pitch 2.54mm)
pins: 1 VO1 (out), 2 NC, 3 NC, 4 VIN- (in), 5 VIN+ (in), 6 VOS ADJUST (in), 7 VOS ADJUST (in), 8 V- (power), 9 VO2 (out), 10 REF (in), 11 VO (out), 12 FEEDBACK (in), 13 V+ (power), 14 DIG.GROUND (power), 15 A0 (in), 16 A1 (in)

## PGA204BU
designator U?
Programmable Gain Instrumentation Amplifier, -40 to 85 degC, 16-pin SOIC (DW16), Green (RoHS & no Sb/Br); Manufacturer: Texas Instruments; PartNumber: PGA204BU; Common Mode Input High(Min)(V): 10.5; Common Mode Input Low(Min)(V): -10.5; Gain Error (+/-)(Max)(%): 0.024; Gain(V/V): 1, 10, 100, 1000; Input Bias Current (+/-)(Max)(nA): 2; Input Offset (+/-)(Max)(uV): 50; Input Offset Drift (+/-)(Max)(uV/Degrees Celsius): 0.25; Noise at 1kHz(Typ)(nV/rt(Hz)): 13; Non-Linearity (+/-)(Max)(%): 0.001; Number of Channels: 1; Quiescent Current (+/-)(Typ)(mA): 5.2; Settling Time to 0.01%(Typ)(us): 140; Slew Rate(Typ)(V/us): 0.7; SubFamily: Programmable Gain Amplifier; Vs(Max)(V): 36; Vs(Min)(V): 9; DatasheetVersion: SBOS022; PackageVersion: 4040000-2/G, 01/2011; PackageReference: DW16; PackageDescription: 16-Pin Plastic Small Outline, Body 10.30 x 7.50 mm, Pitch 1.27 mm; Supplier 1: Digi-Key; Supplier Part Number 1: PGA204BU-ND; Supplier 2: Farnell; Supplier Part Number 2: 1207094; Supplier 3: Newark; Supplier Part Number 3: 24M5804; Supplier 4: Newark; Supplier Part Number 4: 35C1958; Supplier 5: Mouser; Supplier Part Number 5: 595-PGA204BU; Eco-Plan: Green (RoHS & no Sb/Br); Mounting Technology: Surface Mount; Code_JEDEC: MS-013; ComponentLink1Description: Manufacturer URL; ComponentLink1URL: http://www.ti.com/; ComponentLink2Description: Datasheet; ComponentLink2URL: http://www.ti.com/general/docs/lit/getliterature.tsp?genericPartNumber=PGA204&fileType=pdf; ComponentLink3Description: Package Specification; ComponentLink3URL: http://www.ti.com/litv/pdf/msoi003g
footprint TI-DW16_N (SOIC, 16-Leads, Body 10.5x7.6mm, Pitch 1.27mm, IPC Medium Density)
footprint TI-DW16_L (SOIC, 16-Leads, Body 10.5x7.6mm, Pitch 1.27mm, IPC High Density)
footprint TI-DW16_M (SOIC, 16-Leads, Body 10.5x7.6mm, Pitch 1.27mm, IPC Low Density)
pins: 1 VO1 (out), 2 NC, 3 NC, 4 VIN- (in), 5 VIN+ (in), 6 VOS ADJUST (in), 7 VOS ADJUST (in), 8 V- (power), 9 VO2 (out), 10 REF (in), 11 VO (out), 12 FEEDBACK (in), 13 V+ (power), 14 DIG.GROUND (power), 15 A0 (in), 16 A1 (in)

## PGA204BU/1K
designator U?
Programmable Gain Instrumentation Amplifier, -40 to 85 degC, 16-pin SOIC (DW16), Green (RoHS & no Sb/Br); Manufacturer: Texas Instruments; PartNumber: PGA204BU/1K; Common Mode Input High(Min)(V): 10.5; Common Mode Input Low(Min)(V): -10.5; Gain Error (+/-)(Max)(%): 0.024; Gain(V/V): 1, 10, 100, 1000; Input Bias Current (+/-)(Max)(nA): 2; Input Offset (+/-)(Max)(uV): 50; Input Offset Drift (+/-)(Max)(uV/Degrees Celsius): 0.25; Noise at 1kHz(Typ)(nV/rt(Hz)): 13; Non-Linearity (+/-)(Max)(%): 0.001; Number of Channels: 1; Quiescent Current (+/-)(Typ)(mA): 5.2; Settling Time to 0.01%(Typ)(us): 140; Slew Rate(Typ)(V/us): 0.7; SubFamily: Programmable Gain Amplifier; Vs(Max)(V): 36; Vs(Min)(V): 9; DatasheetVersion: SBOS022; PackageVersion: 4040000-2/G, 01/2011; PackageReference: DW16; PackageDescription: 16-Pin Plastic Small Outline, Body 10.30 x 7.50 mm, Pitch 1.27 mm; Supplier 1: Digi-Key; Supplier Part Number 1: PGA204BU/1K-ND; Supplier 2: Newark; Supplier Part Number 2: 75C5421; Supplier 3: Mouser; Supplier Part Number 3: 595-PGA204BU/1K; Eco-Plan: Green (RoHS & no Sb/Br); Mounting Technology: Surface Mount; Code_JEDEC: MS-013; ComponentLink1Description: Manufacturer URL; ComponentLink1URL: http://www.ti.com/; ComponentLink2Description: Datasheet; ComponentLink2URL: http://www.ti.com/general/docs/lit/getliterature.tsp?genericPartNumber=PGA204&fileType=pdf; ComponentLink3Description: Package Specification; ComponentLink3URL: http://www.ti.com/litv/pdf/msoi003g
footprint TI-DW16_N (SOIC, 16-Leads, Body 10.5x7.6mm, Pitch 1.27mm, IPC Medium Density)
footprint TI-DW16_L (SOIC, 16-Leads, Body 10.5x7.6mm, Pitch 1.27mm, IPC High Density)
footprint TI-DW16_M (SOIC, 16-Leads, Body 10.5x7.6mm, Pitch 1.27mm, IPC Low Density)
pins: 1 VO1 (out), 2 NC, 3 NC, 4 VIN- (in), 5 VIN+ (in), 6 VOS ADJUST (in), 7 VOS ADJUST (in), 8 V- (power), 9 VO2 (out), 10 REF (in), 11 VO (out), 12 FEEDBACK (in), 13 V+ (power), 14 DIG.GROUND (power), 15 A0 (in), 16 A1 (in)

## PGA204BU/1KE4
designator U?
Programmable Gain Instrumentation Amplifier, -40 to 85 degC, 16-pin SOIC (DW16), Green (RoHS & no Sb/Br); Manufacturer: Texas Instruments; PartNumber: PGA204BU/1KE4; Common Mode Input High(Min)(V): 10.5; Common Mode Input Low(Min)(V): -10.5; Gain Error (+/-)(Max)(%): 0.024; Gain(V/V): 1, 10, 100, 1000; Input Bias Current (+/-)(Max)(nA): 2; Input Offset (+/-)(Max)(uV): 50; Input Offset Drift (+/-)(Max)(uV/Degrees Celsius): 0.25; Noise at 1kHz(Typ)(nV/rt(Hz)): 13; Non-Linearity (+/-)(Max)(%): 0.001; Number of Channels: 1; Quiescent Current (+/-)(Typ)(mA): 5.2; Settling Time to 0.01%(Typ)(us): 140; Slew Rate(Typ)(V/us): 0.7; SubFamily: Programmable Gain Amplifier; Vs(Max)(V): 36; Vs(Min)(V): 9; DatasheetVersion: SBOS022; PackageVersion: 4040000-2/G, 01/2011; PackageReference: DW16; PackageDescription: 16-Pin Plastic Small Outline, Body 10.30 x 7.50 mm, Pitch 1.27 mm; Supplier 1: Digi-Key; Supplier Part Number 1: PGA204BU/1KE4-ND; Supplier 2: Mouser; Supplier Part Number 2: 595-PGA204BU/1KE4; Eco-Plan: Green (RoHS & no Sb/Br); Mounting Technology: Surface Mount; Code_JEDEC: MS-013; ComponentLink1Description: Manufacturer URL; ComponentLink1URL: http://www.ti.com/; ComponentLink2Description: Datasheet; ComponentLink2URL: http://www.ti.com/general/docs/lit/getliterature.tsp?genericPartNumber=PGA204&fileType=pdf; ComponentLink3Description: Package Specification; ComponentLink3URL: http://www.ti.com/litv/pdf/msoi003g
footprint TI-DW16_N (SOIC, 16-Leads, Body 10.5x7.6mm, Pitch 1.27mm, IPC Medium Density)
footprint TI-DW16_L (SOIC, 16-Leads, Body 10.5x7.6mm, Pitch 1.27mm, IPC High Density)
footprint TI-DW16_M (SOIC, 16-Leads, Body 10.5x7.6mm, Pitch 1.27mm, IPC Low Density)
pins: 1 VO1 (out), 2 NC, 3 NC, 4 VIN- (in), 5 VIN+ (in), 6 VOS ADJUST (in), 7 VOS ADJUST (in), 8 V- (power), 9 VO2 (out), 10 REF (in), 11 VO (out), 12 FEEDBACK (in), 13 V+ (power), 14 DIG.GROUND (power), 15 A0 (in), 16 A1 (in)

## PGA204BUE4
designator U?
Programmable Gain Instrumentation Amplifier, -40 to 85 degC, 16-pin SOIC (DW16), Green (RoHS & no Sb/Br); Manufacturer: Texas Instruments; PartNumber: PGA204BUE4; Common Mode Input High(Min)(V): 10.5; Common Mode Input Low(Min)(V): -10.5; Gain Error (+/-)(Max)(%): 0.024; Gain(V/V): 1, 10, 100, 1000; Input Bias Current (+/-)(Max)(nA): 2; Input Offset (+/-)(Max)(uV): 50; Input Offset Drift (+/-)(Max)(uV/Degrees Celsius): 0.25; Noise at 1kHz(Typ)(nV/rt(Hz)): 13; Non-Linearity (+/-)(Max)(%): 0.001; Number of Channels: 1; Quiescent Current (+/-)(Typ)(mA): 5.2; Settling Time to 0.01%(Typ)(us): 140; Slew Rate(Typ)(V/us): 0.7; SubFamily: Programmable Gain Amplifier; Vs(Max)(V): 36; Vs(Min)(V): 9; DatasheetVersion: SBOS022; PackageVersion: 4040000-2/G, 01/2011; PackageReference: DW16; PackageDescription: 16-Pin Plastic Small Outline, Body 10.30 x 7.50 mm, Pitch 1.27 mm; Supplier 1: Digi-Key; Supplier Part Number 1: PGA204BUE4-ND; Supplier 2: Newark; Supplier Part Number 2: 28M6725; Supplier 3: Mouser; Supplier Part Number 3: 595-PGA204BUE4; Eco-Plan: Green (RoHS & no Sb/Br); Mounting Technology: Surface Mount; Code_JEDEC: MS-013; ComponentLink1Description: Manufacturer URL; ComponentLink1URL: http://www.ti.com/; ComponentLink2Description: Datasheet; ComponentLink2URL: http://www.ti.com/general/docs/lit/getliterature.tsp?genericPartNumber=PGA204&fileType=pdf; ComponentLink3Description: Package Specification; ComponentLink3URL: http://www.ti.com/litv/pdf/msoi003g
footprint TI-DW16_N (SOIC, 16-Leads, Body 10.5x7.6mm, Pitch 1.27mm, IPC Medium Density)
footprint TI-DW16_L (SOIC, 16-Leads, Body 10.5x7.6mm, Pitch 1.27mm, IPC High Density)
footprint TI-DW16_M (SOIC, 16-Leads, Body 10.5x7.6mm, Pitch 1.27mm, IPC Low Density)
pins: 1 VO1 (out), 2 NC, 3 NC, 4 VIN- (in), 5 VIN+ (in), 6 VOS ADJUST (in), 7 VOS ADJUST (in), 8 V- (power), 9 VO2 (out), 10 REF (in), 11 VO (out), 12 FEEDBACK (in), 13 V+ (power), 14 DIG.GROUND (power), 15 A0 (in), 16 A1 (in)

## PGA205AP
designator U?
Programmable Gain Instrumentation Amplifier, -40 to 85 degC, 16-pin DIP (N16), Green (RoHS & no Sb/Br); Manufacturer: Texas Instruments; PartNumber: PGA205AP; Common Mode Input High(Min)(V): 10.5; Common Mode Input Low(Min)(V): -10.5; Gain Error (+/-)(Max)(%): 0.05; Gain(V/V): 1, 2, 4, 8; Input Bias Current (+/-)(Max)(nA): 5; Input Offset (+/-)(Max)(uV): 125; Input Offset Drift (+/-)(Max)(uV/Degrees Celsius): 1; Noise at 1kHz(Typ)(nV/rt(Hz)): 15; Non-Linearity (+/-)(Max)(%): 0.002; Quiescent Current (+/-)(Typ)(mA): 5.2; Settling Time to 0.01%(Typ)(us): 28; Slew Rate(Typ)(V/us): 0.7; SubFamily: Programmable Gain Amplifier; Vs(Max)(V): 36; Vs(Min)(V): 9; DatasheetVersion: SBOS022; PackageVersion: 4040049/E, 12/2002; PackageReference: N16; PackageDescription: 16-Pin Plastic In-Line, Body 19.305 x 6.35 mm, Pitch 2.54 mm; Supplier 1: Digi-Key; Supplier Part Number 1: PGA205AP-ND; Supplier 2: Farnell; Supplier Part Number 2: 1544016; Supplier 3: Newark; Supplier Part Number 3: 95M4383; Supplier 4: Newark; Supplier Part Number 4: 75C5422; Supplier 5: Mouser; Supplier Part Number 5: 595-PGA205AP; Eco-Plan: Green (RoHS & no Sb/Br); Number of Channels: 1; Mounting Technology: Through Hole; Code_JEDEC: MS-001; ComponentLink1Description: Manufacturer URL; ComponentLink1URL: http://www.ti.com/; ComponentLink2Description: Datasheet; ComponentLink2URL: http://www.ti.com/general/docs/lit/getliterature.tsp?genericPartNumber=PGA205&fileType=pdf; ComponentLink3Description: Package Specification; ComponentLink3URL: http://www.ti.com/litv/pdf/mpdi002c
footprint TI-N16 (DIP, 16-Leads, Body 19.7x6.6mm, Pitch 2.54mm)
pins: 1 VO1 (out), 2 NC, 3 NC, 4 VIN- (in), 5 VIN+ (in), 6 VOS ADJUST (in), 7 VOS ADJUST (in), 8 V- (power), 9 VO2 (out), 10 REF (in), 11 VO (out), 12 FEEDBACK (in), 13 V+ (power), 14 DIG.GROUND (power), 15 A0 (in), 16 A1 (in)

## PGA205APG4
designator U?
Programmable Gain Instrumentation Amplifier, -40 to 85 degC, 16-pin DIP (N16), Green (RoHS & no Sb/Br); Manufacturer: Texas Instruments; PartNumber: PGA205APG4; Common Mode Input High(Min)(V): 10.5; Common Mode Input Low(Min)(V): -10.5; Gain Error (+/-)(Max)(%): 0.05; Gain(V/V): 1, 2, 4, 8; Input Bias Current (+/-)(Max)(nA): 5; Input Offset (+/-)(Max)(uV): 125; Input Offset Drift (+/-)(Max)(uV/Degrees Celsius): 1; Noise at 1kHz(Typ)(nV/rt(Hz)): 15; Non-Linearity (+/-)(Max)(%): 0.002; Quiescent Current (+/-)(Typ)(mA): 5.2; Settling Time to 0.01%(Typ)(us): 28; Slew Rate(Typ)(V/us): 0.7; SubFamily: Programmable Gain Amplifier; Vs(Max)(V): 36; Vs(Min)(V): 9; DatasheetVersion: SBOS022; PackageVersion: 4040049/E, 12/2002; PackageReference: N16; PackageDescription: 16-Pin Plastic In-Line, Body 19.305 x 6.35 mm, Pitch 2.54 mm; Supplier 1: Digi-Key; Supplier Part Number 1: PGA205APG4-ND; Supplier 2: Newark; Supplier Part Number 2: 99K4118; Supplier 3: Mouser; Supplier Part Number 3: 595-PGA205APG4; Eco-Plan: Green (RoHS & no Sb/Br); Number of Channels: 1; Mounting Technology: Through Hole; Code_JEDEC: MS-001; ComponentLink1Description: Manufacturer URL; ComponentLink1URL: http://www.ti.com/; ComponentLink2Description: Datasheet; ComponentLink2URL: http://www.ti.com/general/docs/lit/getliterature.tsp?genericPartNumber=PGA205&fileType=pdf; ComponentLink3Description: Package Specification; ComponentLink3URL: http://www.ti.com/litv/pdf/mpdi002c
footprint TI-N16 (DIP, 16-Leads, Body 19.7x6.6mm, Pitch 2.54mm)
pins: 1 VO1 (out), 2 NC, 3 NC, 4 VIN- (in), 5 VIN+ (in), 6 VOS ADJUST (in), 7 VOS ADJUST (in), 8 V- (power), 9 VO2 (out), 10 REF (in), 11 VO (out), 12 FEEDBACK (in), 13 V+ (power), 14 DIG.GROUND (power), 15 A0 (in), 16 A1 (in)

## PGA205AU
designator U?
Programmable Gain Instrumentation Amplifier, -40 to 85 degC, 16-pin SOIC (DW16), Green (RoHS & no Sb/Br); Manufacturer: Texas Instruments; PartNumber: PGA205AU; Common Mode Input High(Min)(V): 10.5; Common Mode Input Low(Min)(V): -10.5; Gain Error (+/-)(Max)(%): 0.05; Gain(V/V): 1, 2, 4, 8; Input Bias Current (+/-)(Max)(nA): 5; Input Offset (+/-)(Max)(uV): 125; Input Offset Drift (+/-)(Max)(uV/Degrees Celsius): 1; Noise at 1kHz(Typ)(nV/rt(Hz)): 15; Non-Linearity (+/-)(Max)(%): 0.002; Quiescent Current (+/-)(Typ)(mA): 5.2; Settling Time to 0.01%(Typ)(us): 28; Slew Rate(Typ)(V/us): 0.7; SubFamily: Programmable Gain Amplifier; Vs(Max)(V): 36; Vs(Min)(V): 9; DatasheetVersion: SBOS022; PackageVersion: 4040000-2/G, 01/2011; PackageReference: DW16; PackageDescription: 16-Pin Plastic Small Outline, Body 10.30 x 7.50 mm, Pitch 1.27 mm; Supplier 1: Digi-Key; Supplier Part Number 1: PGA205AU-ND; Supplier 2: Farnell; Supplier Part Number 2: 1212335; Supplier 3: Newark; Supplier Part Number 3: 01M8466; Supplier 4: Newark; Supplier Part Number 4: 80K6039; Supplier 5: Mouser; Supplier Part Number 5: 595-PGA205AU; Eco-Plan: Green (RoHS & no Sb/Br); Number of Channels: 1; Mounting Technology: Surface Mount; Code_JEDEC: MS-013; ComponentLink1Description: Manufacturer URL; ComponentLink1URL: http://www.ti.com/; ComponentLink2Description: Datasheet; ComponentLink2URL: http://www.ti.com/general/docs/lit/getliterature.tsp?genericPartNumber=PGA205&fileType=pdf; ComponentLink3Description: Package Specification; ComponentLink3URL: http://www.ti.com/litv/pdf/msoi003g
footprint TI-DW16_N (SOIC, 16-Leads, Body 10.5x7.6mm, Pitch 1.27mm, IPC Medium Density)
footprint TI-DW16_L (SOIC, 16-Leads, Body 10.5x7.6mm, Pitch 1.27mm, IPC High Density)
footprint TI-DW16_M (SOIC, 16-Leads, Body 10.5x7.6mm, Pitch 1.27mm, IPC Low Density)
pins: 1 VO1 (out), 2 NC, 3 NC, 4 VIN- (in), 5 VIN+ (in), 6 VOS ADJUST (in), 7 VOS ADJUST (in), 8 V- (power), 9 VO2 (out), 10 REF (in), 11 VO (out), 12 FEEDBACK (in), 13 V+ (power), 14 DIG.GROUND (power), 15 A0 (in), 16 A1 (in)

## PGA205AU/1K
designator U?
Programmable Gain Instrumentation Amplifier, -40 to 85 degC, 16-pin SOIC (DW16), Green (RoHS & no Sb/Br); Manufacturer: Texas Instruments; PartNumber: PGA205AU/1K; Common Mode Input High(Min)(V): 10.5; Common Mode Input Low(Min)(V): -10.5; Gain Error (+/-)(Max)(%): 0.05; Gain(V/V): 1, 2, 4, 8; Input Bias Current (+/-)(Max)(nA): 5; Input Offset (+/-)(Max)(uV): 125; Input Offset Drift (+/-)(Max)(uV/Degrees Celsius): 1; Noise at 1kHz(Typ)(nV/rt(Hz)): 15; Non-Linearity (+/-)(Max)(%): 0.002; Quiescent Current (+/-)(Typ)(mA): 5.2; Settling Time to 0.01%(Typ)(us): 28; Slew Rate(Typ)(V/us): 0.7; SubFamily: Programmable Gain Amplifier; Vs(Max)(V): 36; Vs(Min)(V): 9; DatasheetVersion: SBOS022; PackageVersion: 4040000-2/G, 01/2011; PackageReference: DW16; PackageDescription: 16-Pin Plastic Small Outline, Body 10.30 x 7.50 mm, Pitch 1.27 mm; Supplier 1: Digi-Key; Supplier Part Number 1: PGA205AU/1K-ND; Supplier 2: Mouser; Supplier Part Number 2: 595-PGA205AU/1K; Eco-Plan: Green (RoHS & no Sb/Br); Number of Channels: 1; Mounting Technology: Surface Mount; Code_JEDEC: MS-013; ComponentLink1Description: Manufacturer URL; ComponentLink1URL: http://www.ti.com/; ComponentLink2Description: Datasheet; ComponentLink2URL: http://www.ti.com/general/docs/lit/getliterature.tsp?genericPartNumber=PGA205&fileType=pdf; ComponentLink3Description: Package Specification; ComponentLink3URL: http://www.ti.com/litv/pdf/msoi003g
footprint TI-DW16_N (SOIC, 16-Leads, Body 10.5x7.6mm, Pitch 1.27mm, IPC Medium Density)
footprint TI-DW16_L (SOIC, 16-Leads, Body 10.5x7.6mm, Pitch 1.27mm, IPC High Density)
footprint TI-DW16_M (SOIC, 16-Leads, Body 10.5x7.6mm, Pitch 1.27mm, IPC Low Density)
pins: 1 VO1 (out), 2 NC, 3 NC, 4 VIN- (in), 5 VIN+ (in), 6 VOS ADJUST (in), 7 VOS ADJUST (in), 8 V- (power), 9 VO2 (out), 10 REF (in), 11 VO (out), 12 FEEDBACK (in), 13 V+ (power), 14 DIG.GROUND (power), 15 A0 (in), 16 A1 (in)

## PGA205AU/1KG4
designator U?
Programmable Gain Instrumentation Amplifier, -40 to 85 degC, 16-pin SOIC (DW16), Green (RoHS & no Sb/Br); Manufacturer: Texas Instruments; PartNumber: PGA205AU/1KG4; Common Mode Input High(Min)(V): 10.5; Common Mode Input Low(Min)(V): -10.5; Gain Error (+/-)(Max)(%): 0.05; Gain(V/V): 1, 2, 4, 8; Input Bias Current (+/-)(Max)(nA): 5; Input Offset (+/-)(Max)(uV): 125; Input Offset Drift (+/-)(Max)(uV/Degrees Celsius): 1; Noise at 1kHz(Typ)(nV/rt(Hz)): 15; Non-Linearity (+/-)(Max)(%): 0.002; Quiescent Current (+/-)(Typ)(mA): 5.2; Settling Time to 0.01%(Typ)(us): 28; Slew Rate(Typ)(V/us): 0.7; SubFamily: Programmable Gain Amplifier; Vs(Max)(V): 36; Vs(Min)(V): 9; DatasheetVersion: SBOS022; PackageVersion: 4040000-2/G, 01/2011; PackageReference: DW16; PackageDescription: 16-Pin Plastic Small Outline, Body 10.30 x 7.50 mm, Pitch 1.27 mm; Supplier 1: Digi-Key; Supplier Part Number 1: PGA205AU/1KG4-ND; Supplier 2: Mouser; Supplier Part Number 2: 595-PGA205AU/1KG4; Eco-Plan: Green (RoHS & no Sb/Br); Number of Channels: 1; Mounting Technology: Surface Mount; Code_JEDEC: MS-013; ComponentLink1Description: Manufacturer URL; ComponentLink1URL: http://www.ti.com/; ComponentLink2Description: Datasheet; ComponentLink2URL: http://www.ti.com/general/docs/lit/getliterature.tsp?genericPartNumber=PGA205&fileType=pdf; ComponentLink3Description: Package Specification; ComponentLink3URL: http://www.ti.com/litv/pdf/msoi003g
footprint TI-DW16_N (SOIC, 16-Leads, Body 10.5x7.6mm, Pitch 1.27mm, IPC Medium Density)
footprint TI-DW16_L (SOIC, 16-Leads, Body 10.5x7.6mm, Pitch 1.27mm, IPC High Density)
footprint TI-DW16_M (SOIC, 16-Leads, Body 10.5x7.6mm, Pitch 1.27mm, IPC Low Density)
pins: 1 VO1 (out), 2 NC, 3 NC, 4 VIN- (in), 5 VIN+ (in), 6 VOS ADJUST (in), 7 VOS ADJUST (in), 8 V- (power), 9 VO2 (out), 10 REF (in), 11 VO (out), 12 FEEDBACK (in), 13 V+ (power), 14 DIG.GROUND (power), 15 A0 (in), 16 A1 (in)